# Altium schematic symbol library MBRS330T3G.SchLib: 1 symbol
Pins are listed as number, name and electrical type; pins without a type are passive.

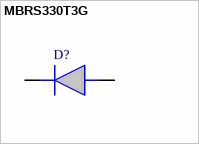
[diagram p0: symbol MBRS330T3G]

## MBRS330T3G
designator D?
Manufacturer_Name: onsemi; Geometry.Height: 2.56mm; Mouser Part Number: 863-MBRS330T3G; Mouser Price/Stock: https://www.mouser.co.uk/ProductDetail/onsemi/MBRS330T3G?qs=3JMERSakebqQvNYO1akzWA%3D%3D; Manufacturer_Part_Number: MBRS330T3G; Description: *; Datasheet Link: http://www.onsemi.com/pub/Collateral/MBRS340T3-D.PDF
footprint DIOM7958X256N
pins: 1 K, 2 A